# Altium footprint library ZYF_Connector.PcbLib: 31 footprints (part 2 of 2)
Each footprint in its own frame and in the unit in brackets; x right, y up, seen from the top. Pads: shape width x height; smd on the part's side, far side on the other; paste and mask are expansions set on the pad; w line width, h text height; cw(c..) or ccw(c..) is an arc to the next point about the centre after c.
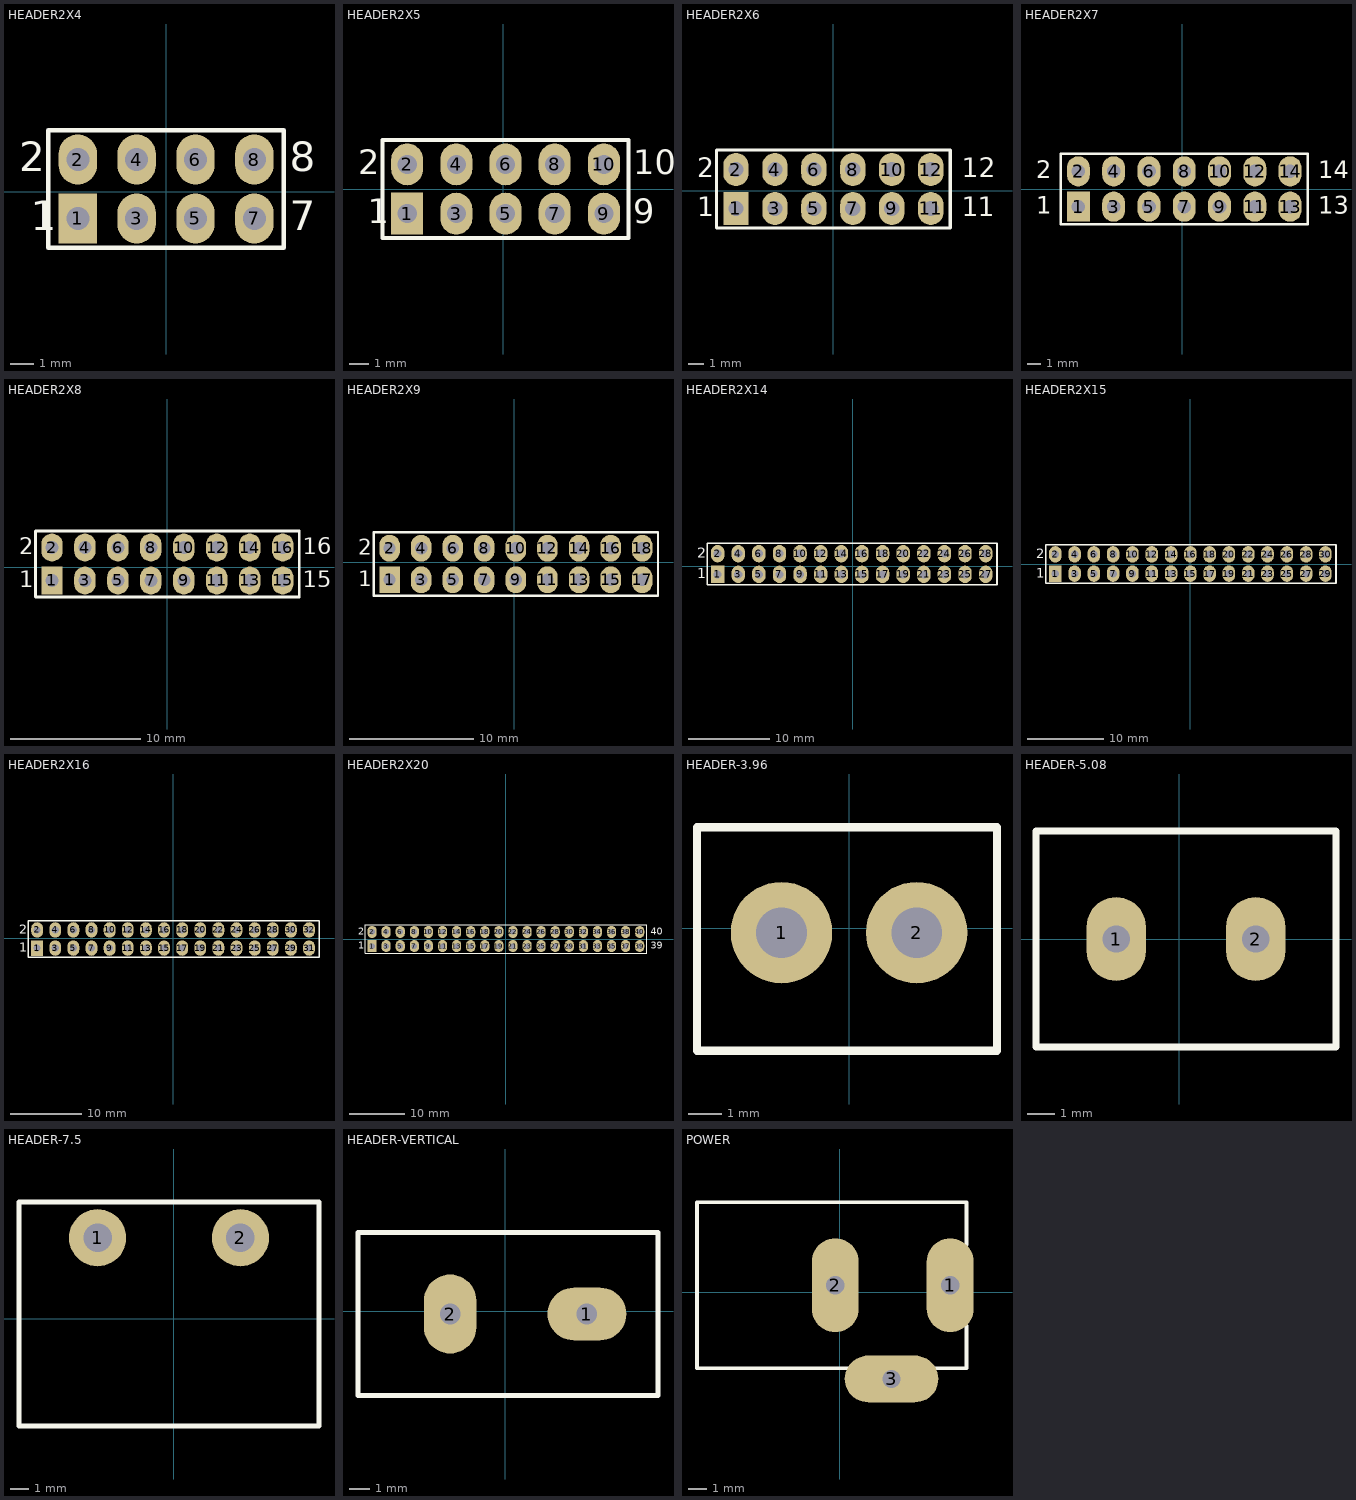
[diagram p1: the footprints below, top view; thin cyan lines are the x and y axes]

## HEADER2X4 [mil]
pads (8):
  rect 65x85 hole 39: 1(-150,-45)
  oval 65x85 hole 39: 2(-150,55) 3(-50,-45) 4(-50,55) 5(50,-45) 6(50,55) 7(150,-45) 8(150,55)
Top Overlay:
  lines w7.87: -200,-95 -200,105 200,105 200,-95 -200,-95
  text "8" at 210,35 h50
  text "7" at 210,-65 h50
  text "1" at -230,-65 h50
  text "2" at -250,35 h50

## HEADER2X5 [mil]
pads (10):
  rect 65x85 hole 39: 1(-195,-50)
  oval 65x85 hole 39: 2(-195,50) 3(-95,-50) 4(-95,50) 5(5,-50) 6(5,50) 7(105,-50) 8(105,50) 9(205,-50) 10(205,50)
Top Overlay:
  lines w7.87: -245,-100 -245,100 255,100 255,-100 -245,-100
  text "2" at -295,30 h50
  text "1" at -275,-70 h50
  text "9" at 265,-70 h50
  text "10" at 265,30 h50

## HEADER2X6 [mil]
pads (12):
  rect 65x85 hole 39: 1(-250,-45)
  oval 65x85 hole 39: 2(-250,55) 3(-150,-45) 4(-150,55) 5(-50,-45) 6(-50,55) 7(50,-45) 8(50,55) 9(150,-45) 10(150,55) 11(250,-45) 12(250,55)
Top Overlay:
  lines w7.87: -300,-95 -300,105 300,105 300,-95 -300,-95
  text "2" at -350,35 h50
  text "1" at -350,-65 h50
  text "1" at 330,-65 h50
  text "1" at 370,-65 h50
  text "12" at 330,35 h50

## HEADER2X7 [mil]
pads (14):
  rect 65x85 hole 39: 1(-295,-50)
  oval 65x85 hole 39: 2(-295,50) 3(-195,-50) 4(-195,50) 5(-95,-50) 6(-95,50) 7(5,-50) 8(5,50) 9(105,-50) 10(105,50) 11(205,-50) 12(205,50) 13(305,-50) 14(305,50)
Top Overlay:
  lines w7.87: -345,-100 355,-100 355,100 -345,100 -345,-100
  text "13" at 385,-70 h50
  text "14" at 385,30 h50
  text "1" at -415,-70 h50
  text "2" at -415,30 h50

## HEADER2X8 [mil]
pads (16):
  rect 65x85 hole 39: 1(-350,-40)
  oval 65x85 hole 39: 2(-350,60) 3(-250,-40) 4(-250,60) 5(-150,-40) 6(-150,60) 7(-50,-40) 8(-50,60) 9(50,-40) 10(50,60) 11(150,-40) 12(150,60) 13(250,-40) 14(250,60) 15(350,-40) 16(350,60)
Top Overlay:
  lines w7.87: -400,-90 -400,110 400,110 400,-90 -400,-90
  text "2" at -450,40 h50
  text "1" at -450,-60 h50
  text "15" at 410,-60 h50
  text "16" at 410,40 h50

## HEADER2X9 [mil]
pads (18):
  rect 65x85 hole 39: 1(-395,-55)
  oval 65x85 hole 39: 2(-395,45) 3(-295,-55) 4(-295,45) 5(-195,-55) 6(-195,45) 7(-95,-55) 8(-95,45) 9(5,-55) 10(5,45) 11(105,-55) 12(105,45) 13(205,-55) 14(205,45) 15(305,-55) 16(305,45) 17(405,-55) 18(405,45)
Top Overlay:
  lines w7.87: -445,-105 -445,95 455,95 455,-105 -445,-105
  text "2" at -495,25 h50
  text "1" at -495,-75 h50

## HEADER2X14 [mil]
pads (28):
  rect 65x85 hole 39: 1(-655,-40)
  oval 65x85 hole 39: 2(-655,60) 3(-555,-40) 4(-555,60) 5(-455,-40) 6(-455,60) 7(-355,-40) 8(-355,60) 9(-255,-40) 10(-255,60) 11(-155,-40) 12(-155,60) 13(-55,-40) 14(-55,60) 15(45,-40) 16(45,60) 17(145,-40) 18(145,60) 19(245,-40) 20(245,60) 21(345,-40) 22(345,60) 23(445,-40) 24(445,60) 25(545,-40) 26(545,60) 27(645,-40) 28(645,60)
Top Overlay:
  lines w7.87: -705,-90 -705,110 700,110 700,-90 -705,-90
  text "2" at -755,40 h50
  text "1" at -755,-60 h50

## HEADER2X15 [mil]
pads (30):
  rect 65x85 hole 39: 1(-700,-50)
  oval 65x85 hole 39: 2(-700,50) 3(-600,-50) 4(-600,50) 5(-500,-50) 6(-500,50) 7(-400,-50) 8(-400,50) 9(-300,-50) 10(-300,50) 11(-200,-50) 12(-200,50) 13(-100,-50) 14(-100,50) 15(0,-50) 16(0,50) 17(100,-50) 18(100,50) 19(200,-50) 20(200,50) 21(300,-50) 22(300,50) 23(400,-50) 24(400,50) 25(500,-50) 26(500,50) 27(600,-50) 28(600,50) 29(700,-50) 30(700,50)
Top Overlay:
  lines w7.87: -750,-100 -750,100 755,100 755,-100 -750,-100
  text "2" at -800,30 h50
  text "1" at -800,-70 h50

## HEADER2X16 [mil]
pads (32):
  rect 65x85 hole 39: 1(-750,-55)
  oval 65x85 hole 39: 2(-750,45) 3(-650,-55) 4(-650,45) 5(-550,-55) 6(-550,45) 7(-450,-55) 8(-450,45) 9(-350,-55) 10(-350,45) 11(-250,-55) 12(-250,45) 13(-150,-55) 14(-150,45) 15(-50,-55) 16(-50,45) 17(50,-55) 18(50,45) 19(150,-55) 20(150,45) 21(250,-55) 22(250,45) 23(350,-55) 24(350,45) 25(450,-55) 26(450,45) 27(550,-55) 28(550,45) 29(650,-55) 30(650,45) 31(750,-55) 32(750,45)
Top Overlay:
  lines w7.87: -800,-105 -800,95 805,95 805,-105 -800,-105
  text "2" at -850,25 h50
  text "1" at -850,-75 h50

## HEADER2X20 [mil]
pads (40):
  rect 65x85 hole 39: 1(-950,-50)
  oval 65x85 hole 39: 2(-950,50) 3(-850,-50) 4(-850,50) 5(-750,-50) 6(-750,50) 7(-650,-50) 8(-650,50) 9(-550,-50) 10(-550,50) 11(-450,-50) 12(-450,50) 13(-350,-50) 14(-350,50) 15(-250,-50) 16(-250,50) 17(-150,-50) 18(-150,50) 19(-50,-50) 20(-50,50) 21(50,-50) 22(50,50) 23(150,-50) 24(150,50) 25(250,-50) 26(250,50) 27(350,-50) 28(350,50) 29(450,-50) 30(450,50) 31(550,-50) 32(550,50) 33(650,-50) 34(650,50) 35(750,-50) 36(750,50) 37(850,-50) 38(850,50) 39(950,-50) 40(950,50)
Top Overlay:
  lines w7.87: -1000,-100 -1000,100 1000,100 1000,-100 -1000,-100
  text "39" at 1030,-70 h50
  text "40" at 1030,30 h50
  text "2" at -1050,30 h50
  text "1" at -1050,-70 h50

## HEADER-3.96 [mil]
pads (2):
  round 120 hole 60: 1(-80,-5) 2(80,-5)
Top Overlay:
  lines w10: -180,-145 -180,120 175,120 175,-145 -180,-145

## HEADER-5.08 [mil]
pads (2):
  oval 85x120 hole 39: 1(-90,0) 2(110,0)
Top Overlay:
  lines w10: -205,-155 -205,155 225,155 225,-155 -205,-155

## HEADER-7.5 [mil]
pads (2):
  round 120 hole 60: 1(-160,170) 2(140,170)
Top Overlay:
  lines w10: -325,-225 305,-225 305,245 -325,245 -325,-225

## HEADER-VERTICAL [mil]
pads (2):
  oval 150x100 hole 39: 1(155,-5)
  oval 100x150 hole 39: 2(-105,-5)
Top Overlay:
  lines w10: -280,-160 290,-160 290,150 -280,150 -280,-160

## POWER [mil]
pads (3):
  oval 100x200 hole 39: 1(235,15) 2(-10,15)
  oval 200x100 hole 39: 3(110,-185)
Top Overlay:
  lines w7.87: 21.77,-162.17 -305,-162.17 -305,192.17 269.8,192.17 269.8,101.61 ; 195,-162.17 269.8,-162.17 269.8,-71.61